# Altium footprint library TactileSwitch_SKQMBAE010.PcbLib: 1 footprints
Each footprint in its own frame and in the unit in brackets; x right, y up, seen from the top. Pads: shape width x height; smd on the part's side, far side on the other; paste and mask are expansions set on the pad; w line width, h text height; cw(c..) or ccw(c..) is an arc to the next point about the centre after c.
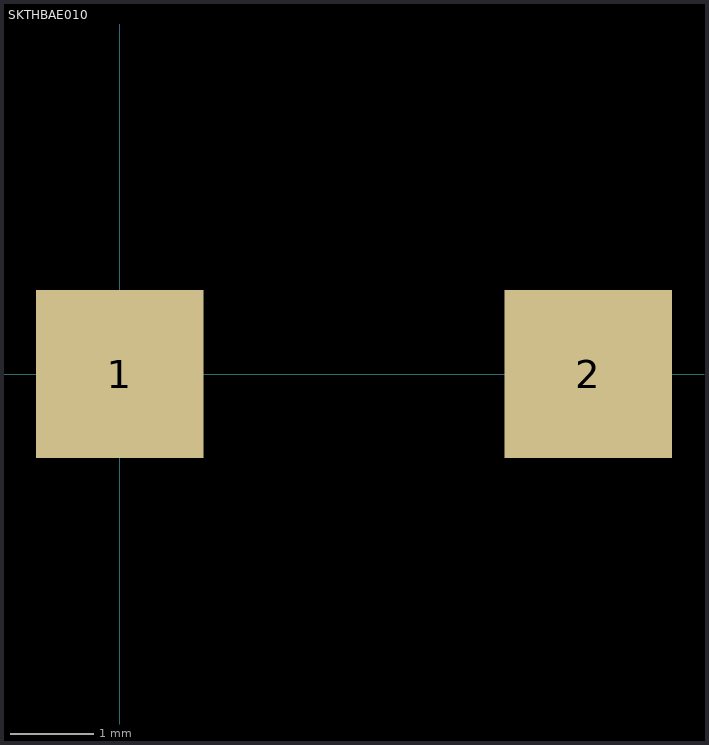
[diagram p0: the footprint, top view; thin cyan lines are the x and y axes]

## SKTHBAE010 [mm] "Tactile Switch 4-Pad Footprint"
pads (2):
  rect 2x2 smd: 1(0,0) 2(5.588,0)
3D body "SKQMBB.STEP": height 5, standoff 0, extent -0.229,-1.75 6.071,1.75